# EAGLE library part ATTINYX61 (library nonolith)
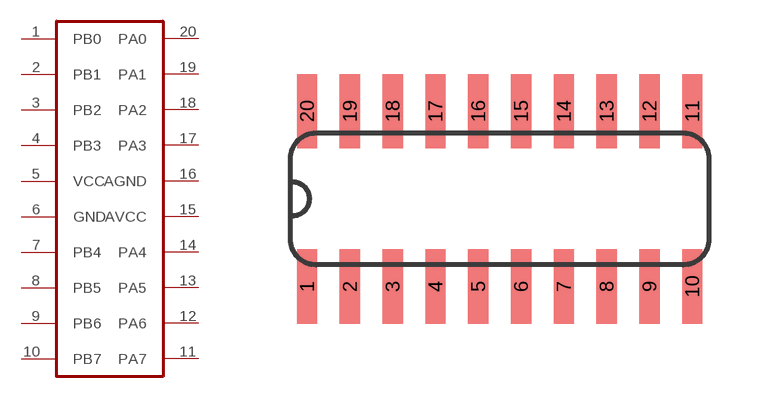
[diagram p42: symbol with the pads of SO-20; footprint SO-20]

Designator prefix -

## ATTINYX61  [SO-20]
1  PB0
2  PB1
3  PB2
4  PB3
5  VCC
6  GND
7  PB4
8  PB5
9  PB6
10  PB7
11  PA7
12  PA6
13  PA5
14  PA4
15  AVCC
16  AGND
17  PA3
18  PA2
19  PA1
20  PA0

## Footprint SO-20 (pad centres in mm)
SO-20
smd 0.6 x 2.2: 1 -6.35,-2.6; 2 -5.08,-2.6; 3 -3.81,-2.6; 4 -2.54,-2.6; 5 -1.27,-2.6; 6 0,-2.6; 7 1.27,-2.6; 8 2.54,-2.6; 9 3.81,-2.6; 10 5.08,-2.6; 11 5.08,2.6; 12 3.81,2.6; 13 2.54,2.6; 14 1.27,2.6; 15 0,2.6; 16 -1.27,2.6; 17 -2.54,2.6; 18 -3.81,2.6; 19 -5.08,2.6; 20 -6.35,2.6